# EAGLE library part MAX31855 (library MyLibrary)
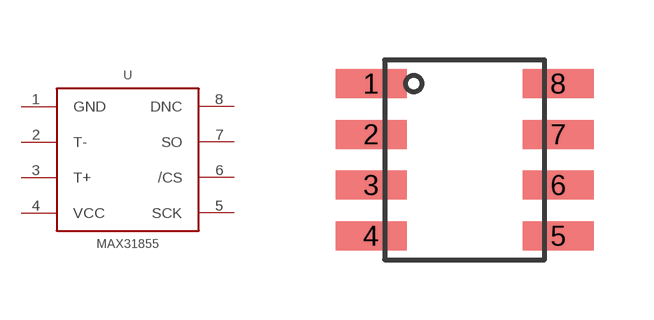
[diagram p2: symbol with the pads of SOIC-8; footprint SOIC-8]

Designator prefix -

## MAX31855  [SOIC-8]
1  GND
2  T-
3  T+
4  VCC
5  SCK
6  /CS
7  SO
8  DNC

## Footprint SOIC-8 (pad centres in mm)
smd 1.78 x 0.72: 1 -2.34,2.54; 2 -2.34,1.27; 3 -2.34,0; 4 -2.34,-1.27; 5 2.34,-1.27; 6 2.34,0; 7 2.34,1.27; 8 2.34,2.54